# EAGLE library part LM5101 (library lm5101)
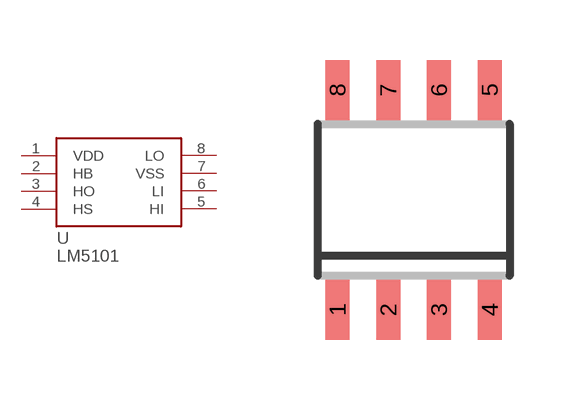
[diagram p0: symbol with the pads of SOIC8; footprint SOIC8]

Designator prefix -

## LM5101  [SOIC8]
1  VDD
2  HB
3  HO
4  HS
5  HI
6  LI
7  VSS
8  LO

## Footprint SOIC8 (pad centres in mm)
SOIC-8 CASE 751-07 Source: http://www.onsemi.com/pub/Collateral/MC34164-D.PDF D (R-PDSO-G8)PLATIC SMALL-OUTLINE PACKAGE Source: http://focus.ti.com/lit/ds/symlink/tlc27l2.pdf
smd 0.6 x 1.5: 1 -1.905,-2.75; 2 -0.635,-2.75; 3 0.635,-2.75; 4 1.905,-2.75; 5 1.905,2.75; 6 0.635,2.75; 7 -0.635,2.75; 8 -1.905,2.75